# EAGLE library part MAX1792EUA (library maxim)
500mA Low-Dropout Linear Regulator in µMAX Source: http://www.maxim-ic.com .. MAX1792-1.pdf
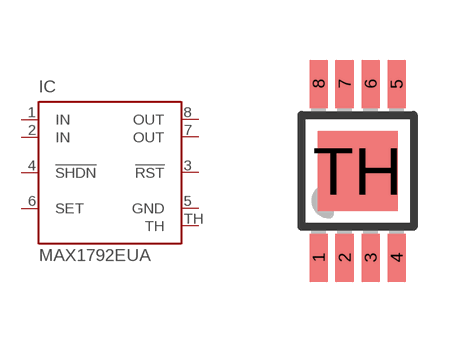
[diagram p182: symbol with the pads of UMAX8-THERMAL; footprint UMAX8-THERMAL]

Designator prefix IC

## MAX1792EUAT (OC_FARNELL: unknown; OC_NEWARK: unknown)  [UMAX8-THERMAL]
1  IN  in
2  IN  in
3  !RST  out
4  !SHDN  in
5  GND  pwr
6  SET  in
7  OUT  pas
8  OUT  pas
TH  TH  pas

## Footprint UMAX8-THERMAL (pad centres in mm)
micro MAX Package Source: MAX1792.pdf
smd 0.45 x 1.2: 1 -0.975,-2.175; 2 -0.325,-2.175; 3 0.325,-2.175; 4 0.975,-2.175; 5 0.975,2.175; 6 0.325,2.175; 7 -0.325,2.175; 8 -0.975,2.175
smd 2 x 2: TH 0,0